# Altium footprint library B02B-JWPF-SK-R.PcbLib: 1 footprints
Each footprint in its own frame and in the unit in brackets; x right, y up, seen from the top. Pads: shape width x height; smd on the part's side, far side on the other; paste and mask are expansions set on the pad; w line width, h text height; cw(c..) or ccw(c..) is an arc to the next point about the centre after c.
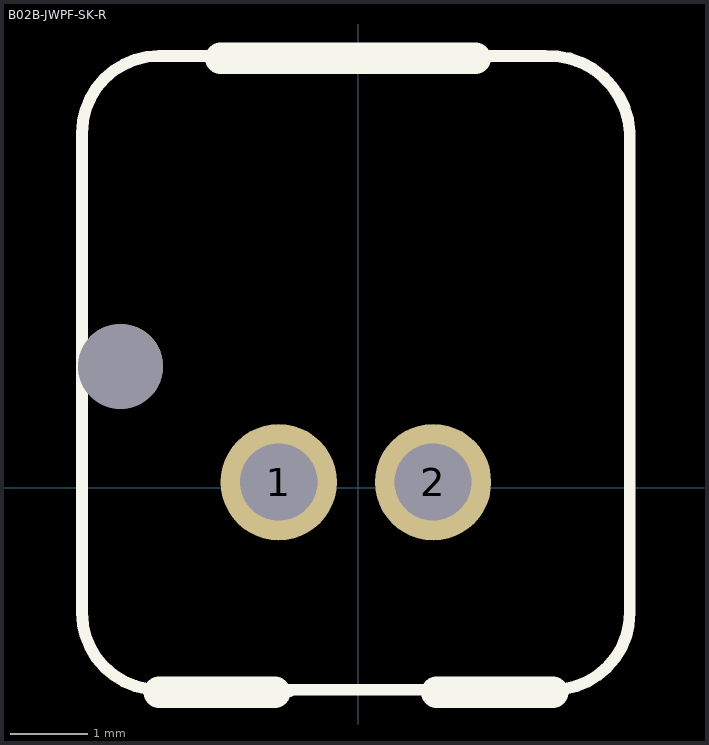
[diagram p0: the footprint, top view; thin cyan lines are the x and y axes]

## B02B-JWPF-SK-R [mm]
pads (3):
  round 1.508 hole 1: 1(-1.033,0.072) 2(0.967,0.072)
  round 1.1 hole 1.1 unplated: ""(-3.083,1.572)
Top Overlay:
  lines w0.127: -3.583,-1.751 -3.583,-1.621 -3.583,3.049 ; -1.783,-2.651 -0.883,-2.651
  lines w0.152: -3.583,4.572 -3.583,-1.621 ccw(c-2.583,-1.621) -2.583,-2.621 2.517,-2.621 ccw(c2.517,-1.621) 3.517,-1.621 3.517,4.572 ; -3.583,4.595 cw(c-2.583,4.595) -2.583,5.595 2.417,5.595 ; 2.412,5.595 cw(c2.467,4.545) 3.517,4.6
  lines w0.406: -2.583,-2.651 -1.083,-2.651 ; -1.783,5.565 1.517,5.565 ; 1.017,-2.651 2.517,-2.651
3D body "B02B-JWPF-SK-R.STEP": height 16.65, standoff -3.25, extent -3.538,-2.526 3.462,5.574